# EAGLE library part 64601011622 (library Wire_to_Board_Connectors_rev15d)
WR-WTB 2.50mm Male Shrouded Header, 10 Pins=>Code : WR-WTB_Stiftleiste_m.V_64601011622 <http://katalog.we-online.de/media/thumbs2/eican/thb_WR-WTB_Stiftleiste_m.V_64600711622.jpg> Details see: http://katalog.we-online.de/en/em/646_0xx_116_22 Created 2014-06-05, Karrer Zheng 2014 (C) Würth Elektronik
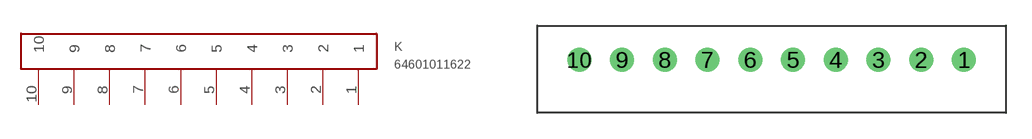
[diagram p24: symbol with the pads of 64601011622; footprint 64601011622]

Designator prefix K

## 64601011622  [64601011622]
1  1  pas
2  2  pas
3  3  pas
4  4  pas
5  5  pas
6  6  pas
7  7  pas
8  8  pas
9  9  pas
10  10  pas

## Footprint 64601011622 (pad centres in mm)
WR-WTB 2.50mm Male Shrouded Header, 10 Pins
drill 0.9: 1 1.25,0; 2 -1.25,0; 3 -3.75,0; 4 -6.25,0; 5 -8.75,0; 6 -11.25,0; 7 -13.75,0; 8 -16.25,0; 9 -18.75,0; 10 -21.25,0